# Altium footprint library XAL40xx.PcbLib: 1 footprints
Each footprint in its own frame and in the unit in brackets; x right, y up, seen from the top. Pads: shape width x height; smd on the part's side, far side on the other; paste and mask are expansions set on the pad; w line width, h text height; cw(c..) or ccw(c..) is an arc to the next point about the centre after c.
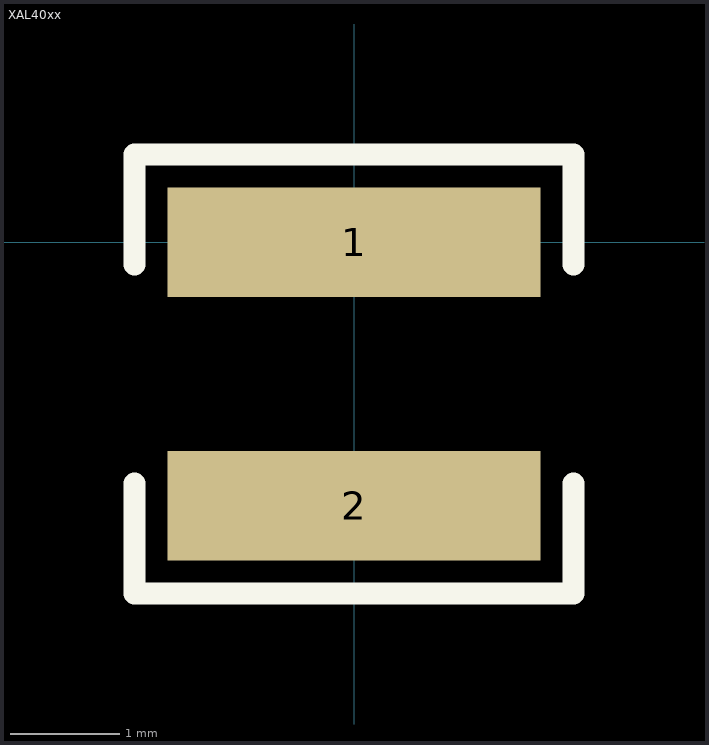
[diagram p0: the footprint, top view; thin cyan lines are the x and y axes]

## XAL40xx [mm] "XAL40xx Series High Current Power Inductors"
pads (2):
  rect 3.4x1 smd: 1(0,0) 2(0,-2.4)
Top Overlay:
  lines w0.2: -2,-2.2 -2,-3.2 2,-3.2 2,-2.2 ; -2,-0.2 -2,0.8 2,0.8 2,-0.2
3D body: height 2.65, standoff 0, extent -0.775,0.975 -0.775,0.975
3D body "Coilcraft-XAL4030.STEP": height 3, standoff -0.1, extent -2.15,-3.35 2.15,0.95